# Altium footprint library BQ25170JDSGR.PcbLib: 3 footprints
Each footprint in its own frame and in the unit in brackets; x right, y up, seen from the top. Pads: shape width x height; smd on the part's side, far side on the other; paste and mask are expansions set on the pad; w line width, h text height; cw(c..) or ccw(c..) is an arc to the next point about the centre after c.
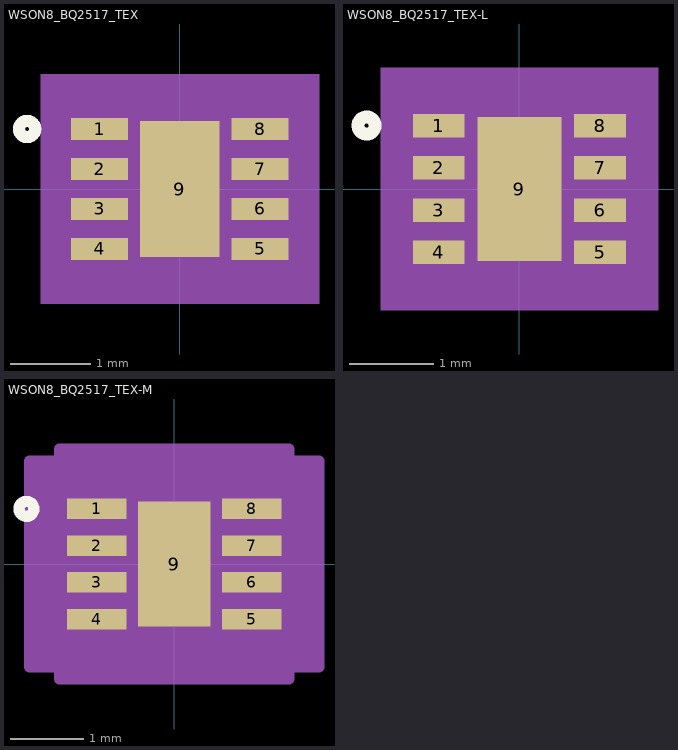
[diagram p0: the footprints below, top view; thin cyan lines are the x and y axes]

## WSON8_BQ2517_TEX [mil]
pads (9):
  rect 28x11 smd paste+0 mask+0: 1(-39.5,29.54) 2(-39.5,9.85) 3(-39.5,-9.85) 4(-39.5,-29.54) 5(39.5,-29.54) 6(39.5,-9.85) 7(39.5,9.85) 8(39.5,29.54)
  rect 39x67 smd paste+0 mask+0: 9(0,0)
Top Overlay:
  circle w6: c-75.19,29.54 r4
Mechanical 5:
  region: 68.5,-56.5 -68.5,-56.5 -68.5,56.5 68.5,56.5
Mechanical 13:
  circle w0: c-25.5,29.54 r3
  lines w0: -12,41.5 ccw(c0,41.5) 12,41.5
  lines w1: -41.5,-41.5 41.5,-41.5 41.5,41.5 -41.5,41.5 -41.5,-41.5
Mechanical 15:
  region: -51.5,-45.03 -63.5,-45.03 -63.5,45.03 -51.5,45.03 -51.5,51.5 51.5,51.5 51.5,45.03 63.5,45.03 63.5,-45.03 51.5,-45.03 51.5,-51.5 -51.5,-51.5
  lines w6: -63.5,-45.03 -63.5,45.03 -51.5,45.03 -51.5,51.5 51.5,51.5 51.5,45.03 63.5,45.03 63.5,-45.03 51.5,-45.03 51.5,-51.5 -51.5,-51.5 -51.5,-45.03 -63.5,-45.03
3D body "WSON8_BQ2517_TEX.step": height 32.09, standoff 0, extent -41.5,-41.5 41.5,41.5

## WSON8_BQ2517_TEX-L [mil]
pads (9):
  rect 24x11 smd paste+0 mask+0: 1(-37.5,29.54) 2(-37.5,9.85) 3(-37.5,-9.85) 4(-37.5,-29.54) 5(37.5,-29.54) 6(37.5,-9.85) 7(37.5,9.85) 8(37.5,29.54)
  rect 39x67 smd paste+0 mask+0: 9(0,0)
Top Overlay:
  circle w6: c-71.19,29.54 r4
Mechanical 5:
  region: 64.5,-56.5 -64.5,-56.5 -64.5,56.5 64.5,56.5
Mechanical 13:
  circle w0: c-25.5,29.54 r3
  lines w0: -12,41.5 ccw(c0,41.5) 12,41.5
  lines w1: -41.5,-41.5 41.5,-41.5 41.5,41.5 -41.5,41.5 -41.5,-41.5
Mechanical 15:
  region: -45.5,-39.03 -53.5,-39.03 -53.5,39.03 -45.5,39.03 -45.5,45.5 45.5,45.5 45.5,39.03 53.5,39.03 53.5,-39.03 45.5,-39.03 45.5,-45.5 -45.5,-45.5
  lines w6: -53.5,-39.03 -53.5,39.03 -45.5,39.03 -45.5,45.5 45.5,45.5 45.5,39.03 53.5,39.03 53.5,-39.03 45.5,-39.03 45.5,-45.5 -45.5,-45.5 -45.5,-39.03 -53.5,-39.03
3D body "WSON8_BQ2517_TEX.step": height 32.09, standoff 0, extent -41.5,-41.5 41.5,41.5

## WSON8_BQ2517_TEX-M [mil]
pads (9):
  rect 32x11 smd paste+0 mask+0: 1(-41.5,29.54) 2(-41.5,9.85) 3(-41.5,-9.85) 4(-41.5,-29.54) 5(41.5,-29.54) 6(41.5,-9.85) 7(41.5,9.85) 8(41.5,29.54)
  rect 39x67 smd paste+0 mask+0: 9(0,0)
Top Overlay:
  circle w6: c-79.19,29.54 r4
Mechanical 5:
  region: 72.5,-56.5 -72.5,-56.5 -72.5,56.5 72.5,56.5
Mechanical 13:
  circle w0: c-25.5,29.54 r3
  lines w0: -12,41.5 ccw(c0,41.5) 12,41.5
  lines w1: -41.5,-41.5 -41.5,41.5 41.5,41.5 41.5,-41.5 -41.5,-41.5
Mechanical 15:
  region: -61.5,-55.03 -77.5,-55.03 -77.5,55.03 -61.5,55.03 -61.5,61.5 61.5,61.5 61.5,55.03 77.5,55.03 77.5,-55.03 61.5,-55.03 61.5,-61.5 -61.5,-61.5
  lines w6: -77.5,-55.03 -61.5,-55.03 -61.5,-61.5 61.5,-61.5 61.5,-55.03 77.5,-55.03 77.5,55.03 61.5,55.03 61.5,61.5 -61.5,61.5 -61.5,55.03 -77.5,55.03 -77.5,-55.03
3D body "WSON8_BQ2517_TEX.step": height 32.09, standoff 0, extent -41.5,-41.5 41.5,41.5